# Altium schematic symbol library TLV493D.SchLib: 1 symbol
Pins are listed as number, name and electrical type; pins without a type are passive.

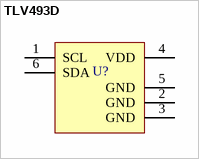
[diagram p0: symbol TLV493D]

## TLV493D
designator U?  (value not drawn)
pins: 1 SCL, 2 GND, 3 GND, 4 VDD, 5 GND, 6 SDA